# Altium schematic symbol library TERM_CRIMP.SchLib: 1 symbol
Pins are listed as number, name and electrical type; pins without a type are passive.

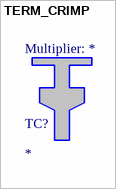
[diagram p0: symbol TERM_CRIMP]

## TERM_CRIMP
designator TC?  (mechanical)
Multiplier: *